# Altium footprint library LM2596.PcbLib: 1 footprints
Each footprint in its own frame and in the unit in brackets; x right, y up, seen from the top. Pads: shape width x height; smd on the part's side, far side on the other; paste and mask are expansions set on the pad; w line width, h text height; cw(c..) or ccw(c..) is an arc to the next point about the centre after c.
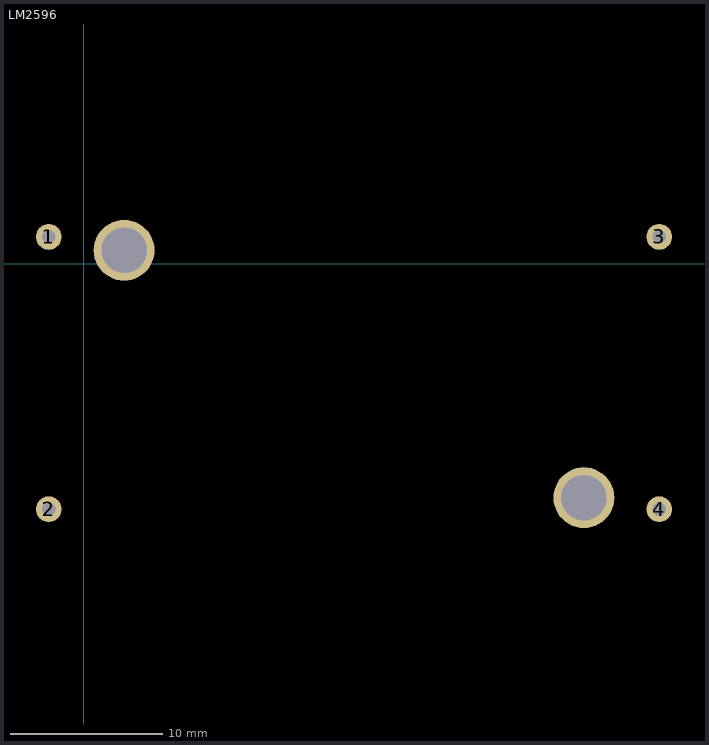
[diagram p0: the footprint, top view; thin cyan lines are the x and y axes]

## LM2596 [mm] "Module"
pads (6):
  round 1.7 hole 0.9: 1(-2.286,1.778) 2(-2.286,-16.129) 3(37.846,1.778) 4(37.846,-16.129)
  round 4 hole 3: ""(2.667,0.889) ""(32.893,-15.367)
3D body "LM2596.STEP": height 13.35, standoff -1.8, extent -3.81,-17.821 39.39,3.429